# Altium schematic symbol library GRM32ER61C476KE15L.SchLib: 1 symbol
Pins are listed as number, name and electrical type; pins without a type are passive.

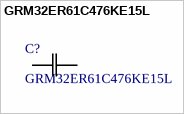
[diagram p0: symbol GRM32ER61C476KE15L]

## GRM32ER61C476KE15L
designator C?
Description; Manufacturer_Name: Murata; Copyright: Copyright (C) 2025 Ultra Librarian. All rights reserved.; Manufacturer_Part_Number: GRM32ER61C476KE15L
footprint G-32_MUR
pins: 1, 2